# Altium footprint library Zener3V3.PcbLib: 1 footprints
Each footprint in its own frame and in the unit in brackets; x right, y up, seen from the top. Pads: shape width x height; smd on the part's side, far side on the other; paste and mask are expansions set on the pad; w line width, h text height; cw(c..) or ccw(c..) is an arc to the next point about the centre after c.
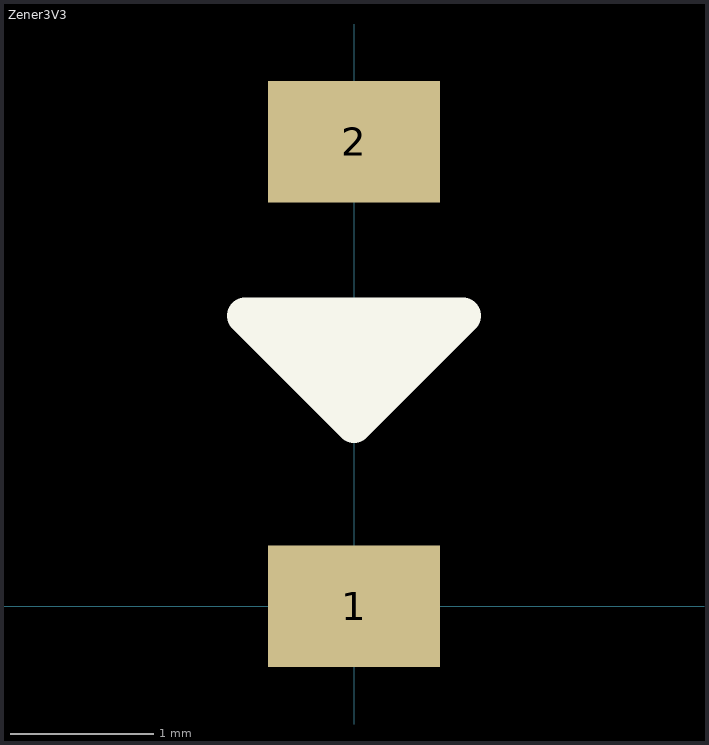
[diagram p0: the footprint, top view; thin cyan lines are the x and y axes]

## Zener3V3 [mm]
pads (2):
  rect 1.2x0.85 smd: 1(0,0) 2(0,3.25)
Top Overlay:
  lines w0.254: 0,1.905 0,1.524 ; -0.762,2.032 0.762,2.032 0,1.27 -0.762,2.032 ; -0.762,2.032 0.254,2.032 ; 0,1.524 0.381,1.905 0.254,2.032 ; 0,1.524 -0.381,1.905 0.127,1.905 0.254,2.032 ; 0,1.524 0.254,1.778 0.254,2.032
3D body "Zener3v3.step": height 0.84, standoff 0, extent -0.851,-0.152 0.851,3.454